# Altium footprint library 无刷驱动-STC-无感-Lite3S.PcbLib: 13 footprints
Each footprint in its own frame and in the unit in brackets; x right, y up, seen from the top. Pads: shape width x height; smd on the part's side, far side on the other; paste and mask are expansions set on the pad; w line width, h text height; cw(c..) or ccw(c..) is an arc to the next point about the centre after c.
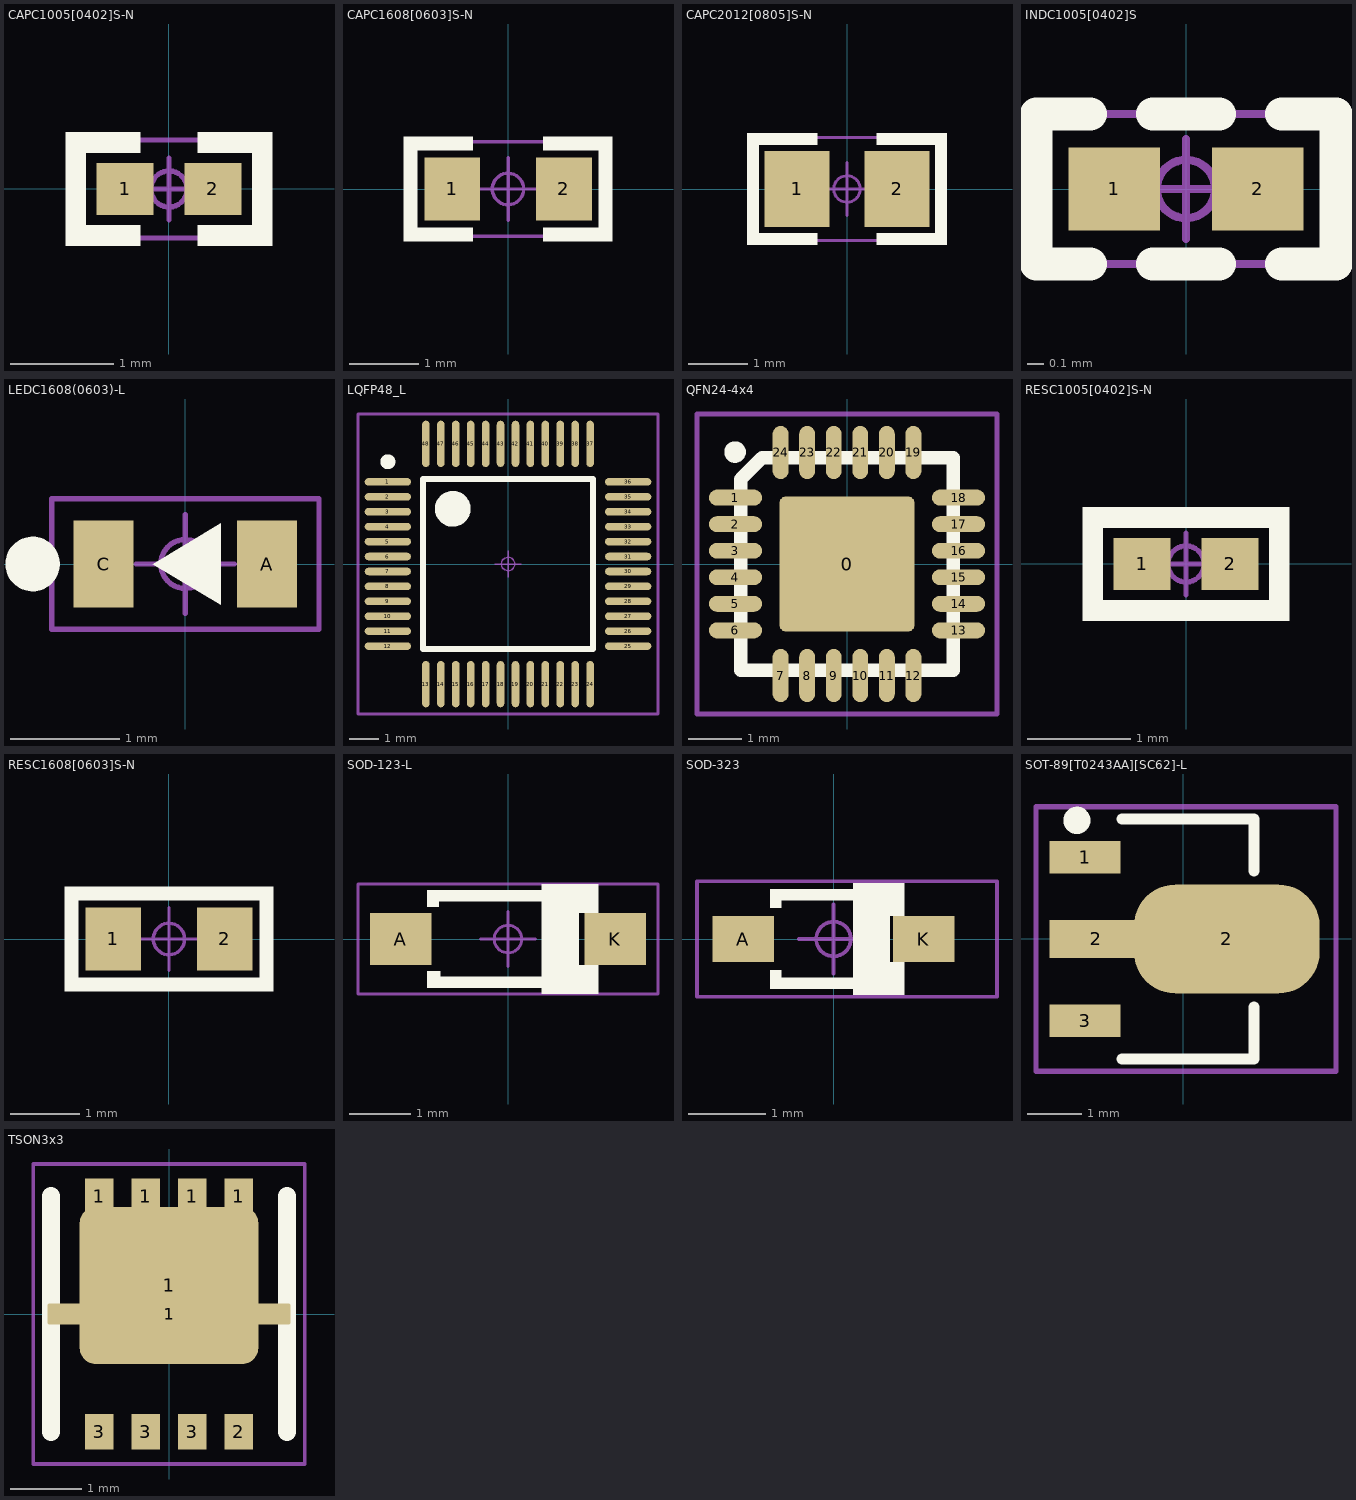
[diagram p0: the footprints below, top view; thin cyan lines are the x and y axes]

## CAPC1005[0402]S-N [mm] "0402贴片电容 有丝印 2脚 1.00x0.50mm IPC中密度"
height 0.6
pads (2):
  rect 0.55x0.5 smd: 1(-0.425,0) 2(0.425,0)
Top Overlay:
  region: 1,0.55 0.275,0.55 0.275,0.35 1,0.35
  region: 1,-0.552 1,0.548 0.8,0.548 0.8,-0.552
  region: 1,-0.35 0.275,-0.35 0.275,-0.55 1,-0.55
  rectangle: -1,-0.55 -0.275,-0.35
  region: -1,0.548 -1,-0.552 -0.8,-0.552 -0.8,0.548
  rectangle: -1,0.35 -0.275,0.55
Top Designator:
  text ".Designator" at -2.25,-0.226 h1
Top Component Outline:
  region: -0.95,-0.45 -0.95,-0.5 0.95,-0.5 0.95,-0.45
  region: 0.95,0.5 0.9,0.5 0.9,-0.5 0.95,-0.5
  region: 0.95,0.45 0.95,0.5 -0.95,0.5 -0.95,0.45
  rectangle: -0.95,-0.5 -0.9,0.5
Top Component Center:
  circle w0.05: c0,0 r0.175
  lines w0.05: -0.3,0 0.3,0 ; 0,-0.3 0,0.3
3D body "Capacitor 0402.SLDPRT": height 0.5, standoff 0, extent -0.5,-0.25 0.5,0.25

## CAPC1608[0603]S-N [mm] "0603贴片电容 有丝印 2脚 1.60x0.80mm IPC中密度"
height 0.85
pads (2):
  rect 0.8x0.9 smd: 1(-0.8,0) 2(0.8,0)
Top Overlay:
  rectangle: -1.5,-0.75 -0.5,-0.55
  region: -1.5,0.749 -1.5,-0.751 -1.3,-0.751 -1.3,0.749
  rectangle: -1.5,0.55 -0.5,0.75
  region: 1.5,0.75 0.5,0.75 0.5,0.55 1.5,0.55
  region: 1.5,-0.751 1.5,0.749 1.3,0.749 1.3,-0.751
  region: 1.5,-0.55 0.5,-0.55 0.5,-0.75 1.5,-0.75
Top Designator:
  text ".Designator" at -2.25,-0.226 h1
Top Component Outline:
  rectangle: -1.45,-0.7 -1.4,0.7
  region: 1.45,0.65 1.45,0.7 -1.45,0.7 -1.45,0.65
  region: 1.45,0.7 1.4,0.7 1.4,-0.7 1.45,-0.7
  region: -1.45,-0.65 -1.45,-0.7 1.45,-0.7 1.45,-0.65
Top Component Center:
  circle w0.05: c0,0 r0.225
  lines w0.05: -0.45,0 0.45,0 ; 0,-0.45 0,0.45
3D body: height 0.79, standoff 0, extent -0.8,-0.406 -0.45,0.406
3D body: height 0.79, standoff 0, extent 0.45,-0.406 0.8,0.407
3D body: height 0.79, standoff 0, extent -0.45,-0.406 0.45,0.406

## CAPC2012[0805]S-N [mm] "0805贴片电容 有丝印 2脚 2.00x1.20mm IPC中密度"
height 1.1
pads (2):
  rect 1.1x1.3 smd: 1(-0.85,0) 2(0.85,0)
Top Overlay:
  rectangle: -1.7,0.75 -0.5,0.95
  region: -1.7,0.95 -1.7,-0.95 -1.5,-0.95 -1.5,0.95
  rectangle: -1.7,-0.95 -0.5,-0.75
  region: 1.7,-0.75 0.5,-0.75 0.5,-0.95 1.7,-0.95
  region: 1.7,-0.95 1.7,0.95 1.5,0.95 1.5,-0.95
  region: 1.7,0.95 0.5,0.95 0.5,0.75 1.7,0.75
Top Designator:
  text ".Designator" at -2.25,-0.226 h1
Top Component Outline:
  region: -1.65,-0.85 -1.65,-0.9 1.65,-0.9 1.65,-0.85
  region: 1.65,0.875 1.6,0.875 1.6,-0.9 1.65,-0.9
  region: 1.65,0.85 1.65,0.9 -1.65,0.9 -1.65,0.85
  rectangle: -1.65,-0.9 -1.6,0.9
Top Component Center:
  circle w0.05: c0,0 r0.225
  lines w0.05: -0.45,0 0.45,0 ; 0,-0.45 0,0.45
3D body "capacitor_rnd1500805b106k6r3.stp": height 1.25, standoff 0, extent -1,-0.625 1,0.625

## INDC1005[0402]S [mm] "Chip Inductor, 2-Leads, Body 1.00x0.50mm, IPC Medium Density"
height 0.6
pads (2):
  rect 0.55x0.5 smd: 1(-0.43,0) 2(0.43,0)
Top Overlay:
  lines w0.2: -0.575,-0.45 -0.9,-0.45 -0.9,0.45 -0.575,0.45 ; -0.2,-0.45 0.2,-0.45 ; -0.2,0.45 0.2,0.45 ; 0.575,-0.45 0.9,-0.45 0.9,0.45 0.575,0.45
Top Designator:
  text ".Designator" at -2.25,-0.226 h1
Top Component Outline:
  lines w0.05: -0.9,-0.45 -0.9,0.45 0.9,0.45 0.9,-0.45 -0.9,-0.45
Top Component Center:
  circle w0.05: c0,0 r0.175
  lines w0.05: -0.3,0 0.3,0 ; 0,-0.3 0,0.3
3D body: height 0.49, standoff 0, extent -0.3,-0.25 0.3,0.25
3D body: height 0.5, standoff 0, extent 0.231,-0.25 0.5,0.25
3D body: height 0.5, standoff 0, extent -0.5,-0.25 -0.231,0.25

## LEDC1608(0603)-L [mm] "LED,Chip;1.60mm L X 0.80mm W X 0.80mm H"
height 0.8
pads (2):
  rect 0.55x0.8 smd: A(0.75,0) C(-0.75,0)
Top Overlay:
  circle w0.25: c-1.4,0 r0.125
  region: -0.3,0 0.325,0.375 0.325,-0.375
Top Designator:
  text ".Designator" at -2.45,-0.226 h1
Top Component Outline:
  lines w0.05: -1.225,-0.6 1.225,-0.6 1.225,0.6 -1.225,0.6 -1.225,-0.6
Top Component Center:
  circle w0.05: c0,0 r0.225
  lines w0.05: -0.45,0 0.45,0 ; 0,-0.45 0,0.45
3D body "0603 (1608) LED Base (Separate Lens).STEP": height 0.64, standoff 0, extent -0.8,-0.4 0.8,0.4
3D body: height 0.64, standoff 0, extent -0.559,-0.4 0.559,0.4

## LQFP48_L [mm] "Thin QFP, 48-Leads, Body 7x7mm, Pitch 0.5mm, IPC High Density"
height 1.6
pads (48):
  oval 1.55x0.254 smd: 1(-4.025,2.75) 2(-4.025,2.25) 3(-4.025,1.75) 4(-4.025,1.25) 5(-4.025,0.75) 6(-4.025,0.25) 7(-4.025,-0.25) 8(-4.025,-0.75) 9(-4.025,-1.25) 10(-4.025,-1.75) 11(-4.025,-2.25) 12(-4.025,-2.75) 25(4.025,-2.75) 26(4.025,-2.25) 27(4.025,-1.75) 28(4.025,-1.25) 29(4.025,-0.75) 30(4.025,-0.25) 31(4.025,0.25) 32(4.025,0.75) 33(4.025,1.25) 34(4.025,1.75) 35(4.025,2.25) 36(4.025,2.75)
  oval 0.254x1.55 smd: 13(-2.75,-4.025) 14(-2.25,-4.025) 15(-1.75,-4.025) 16(-1.25,-4.025) 17(-0.75,-4.025) 18(-0.25,-4.025) 19(0.25,-4.025) 20(0.75,-4.025) 21(1.25,-4.025) 22(1.75,-4.025) 23(2.25,-4.025) 24(2.75,-4.025) 37(2.75,4.025) 38(2.25,4.025) 39(1.75,4.025) 40(1.25,4.025) 41(0.75,4.025) 42(0.25,4.025) 43(-0.25,4.025) 44(-0.75,4.025) 45(-1.25,4.025) 46(-1.75,4.025) 47(-2.25,4.025) 48(-2.75,4.025)
Top Overlay:
  circle w0.25: c-4.025,3.425 r0.125
  circle w0.6: c-1.85,1.85 r0.3
  lines w0.2: -2.85,-2.85 -2.85,2.85 2.85,2.85 2.85,-2.85 -2.85,-2.85
Top Designator:
  text ".Designator" at -2.25,-0.226 h1
Top Component Outline:
  lines w0.1: -5.025,-5.025 -5.025,5.025 5.025,5.025 5.025,-5.025 -5.025,-5.025
Top Component Center:
  circle w0.05: c0,0 r0.225
  lines w0.05: -0.45,0 0.45,0 ; 0,-0.45 0,0.45
3D body "User Library-LQFP48_Grid_0_5.STEP": height 1.6, standoff 0, extent -4.5,-4.5 4.5,4.5

## QFN24-4x4 [mm]
height 1.6
pads (25):
  rrect10% 2.55x2.55 smd: 0(0,0)
  oval 1x0.3 smd: 1(-2.1,1.25) 2(-2.1,0.75) 3(-2.1,0.25) 4(-2.1,-0.25) 5(-2.1,-0.75) 6(-2.1,-1.25) 13(2.1,-1.25) 14(2.1,-0.75) 15(2.1,-0.25) 16(2.1,0.25) 17(2.1,0.75) 18(2.1,1.25)
  oval 0.3x1 smd: 7(-1.25,-2.1) 8(-0.75,-2.1) 9(-0.25,-2.1) 10(0.25,-2.1) 11(0.75,-2.1) 12(1.25,-2.1) 19(1.25,2.1) 20(0.75,2.1) 21(0.25,2.1) 22(-0.25,2.1) 23(-0.75,2.1) 24(-1.25,2.1)
Top Overlay:
  circle w0.203: c-2.108,2.108 r0.102
  lines w0.254: -2,-2 2,-2 2,2 -1.6,2 -2,1.6 -2,-2
Top Designator:
  text ".Designator" at -2.25,-0.226 h1
Top Component Outline:
  lines w0.1: -2.825,-2.825 2.825,-2.825 2.825,2.825 -2.825,2.825 -2.825,-2.825
Top Component Center:
  circle w0.05: c0,0 r0.225
  lines w0.05: -0.45,0 0.45,0 ; 0,-0.45 0,0.45
3D body "User Library-QFN 24 4x4.step": height 0.9, standoff 0, extent -2.002,-2.002 2.002,2.002

## RESC1005[0402]S-N [mm] "0402贴片电阻 有丝印 2脚 1.00x0.50mm IPC中密度"
height 0.6
pads (2):
  rect 0.55x0.5 smd: 1(-0.425,0) 2(0.425,0)
Top Overlay:
  region: 1,-0.55 1,0.55 0.8,0.55 0.8,-0.55
  rectangle: -1,-0.55 1,-0.35
  region: -1,0.55 -1,-0.55 -0.8,-0.55 -0.8,0.55
  rectangle: -1,0.35 1,0.55
Top Designator:
  text ".Designator" at -2.25,-0.226 h1
Top Component Outline:
  rectangle: -0.95,-0.5 -0.9,0.5
  region: 0.95,0.45 0.95,0.5 -0.95,0.5 -0.95,0.45
  region: 0.95,0.5 0.9,0.5 0.9,-0.5 0.95,-0.5
  region: -0.95,-0.45 -0.95,-0.5 0.95,-0.5 0.95,-0.45
Top Component Center:
  circle w0.05: c0,0 r0.175
  lines w0.05: -0.3,0 0.3,0 ; 0,-0.3 0,0.3
3D body "R0402.STEP": height 0.35, standoff 0, extent -0.5,-0.25 0.5,0.25

## RESC1608[0603]S-N [mm] "0603贴片电阻 有丝印 2脚 1.60x0.80mm IPC中密度"
height 0.6
pads (2):
  rect 0.8x0.9 smd: 1(-0.8,0) 2(0.8,0)
Top Overlay:
  region: 1.5,-0.75 1.5,0.75 1.3,0.75 1.3,-0.75
  region: -1.5,0.75 -1.5,-0.75 -1.3,-0.75 -1.3,0.75
  rectangle: -1.5,0.55 1.5,0.75
  rectangle: -1.501,-0.75 1.499,-0.55
Top Designator:
  text ".Designator" at -2.25,-0.226 h1
Top Component Outline:
  rectangle: -1.45,-0.7 -1.4,0.7
  region: 1.45,0.65 1.45,0.7 -1.45,0.7 -1.45,0.65
  region: 1.45,0.7 1.4,0.7 1.4,-0.7 1.45,-0.7
  region: -1.45,-0.65 -1.45,-0.7 1.45,-0.7 1.45,-0.65
Top Component Center:
  circle w0.05: c0,0 r0.225
  lines w0.05: -0.45,0 0.45,0 ; 0,-0.45 0,0.45
3D body "R0603.STEP": height 0.45, standoff 0, extent -0.8,-0.4 0.8,0.4

## SOD-123-L [mm] "SOD Diode;2.70mm W X 1.60mm L X 1.35mm H body"
height 1.35
pads (2):
  rect 1x0.85 smd: A(-1.75,0) K(1.75,0)
Top Overlay:
  rectangle: 0.549,-0.801 1.158,0.799
  rectangle: 0.549,-0.899 1.474,-0.696
  rectangle: -1.143,0.612 0.584,0.8
  rectangle: 0.549,0.698 1.474,0.901
  rectangle: -1.143,-0.8 0.584,-0.612
  rectangle: 1.15,0.425 1.475,0.8
  rectangle: 1.15,-0.8 1.475,-0.425
  region: -1.1,-0.525 -1.325,-0.525 -1.325,-0.8 -1.1,-0.8
  region: -1.125,0.8 -1.325,0.8 -1.325,0.525 -1.125,0.525
Top Designator:
  text ".Designator" at -2.25,-0.226 h1
Top Component Outline:
  lines w0.05: -2.45,-0.9 -2.45,0.9 2.45,0.9 2.45,-0.9 -2.45,-0.9
Top Component Center:
  circle w0.05: c0,0 r0.225
  lines w0.05: -0.45,0 0.45,0 ; 0,-0.45 0,0.45
3D body "SOD-123.STEP": height 1.2, standoff 0, extent -1.85,-0.8 1.85,0.8

## SOD-323 [mm] "SOD Diode;1.65mm W X 1.24mm L X 1.16mm H body"
height 1.16
pads (2):
  rect 0.8x0.6 smd: A(-1.175,0) K(1.175,0)
Top Overlay:
  rectangle: -0.825,-0.65 -0.675,-0.4
  rectangle: -0.825,-0.65 0.65,-0.5
  rectangle: -0.825,0.4 -0.675,0.65
  rectangle: -0.825,0.5 0.65,0.65
  rectangle: 0.254,-0.725 0.737,0.725
  rectangle: 0.575,0.3 0.925,0.725
  rectangle: 0.575,-0.725 0.925,-0.3
Top Designator:
  text ".Designator" at -2.075,-0.226 h1
Top Component Outline:
  lines w0.05: -1.775,-0.75 2.125,-0.75 2.125,0.75 -1.775,0.75 -1.775,-0.75
Top Component Center:
  circle w0.05: c0,0 r0.225
  lines w0.05: -0.45,0 0.45,0 ; 0,-0.45 0,0.45
3D body "SOD-323.STEP": height 1, standoff 0, extent -1.3,-0.65 1.3,0.65

## SOT-89[T0243AA][SC62]-L [mm] "SOT89, T0243AA,SC62,3-Leads, Body 4.5x2.4 mm, Pitch 1.5mm, Lead Span 4.1mm, IPC Low Density"
height 1.6
pads (4):
  rect 1.3x0.6 smd: 1(-1.8,1.5) 3(-1.8,-1.5)
  rect 1.7x0.7 smd: 2(-1.6,0)
  rrect75% 3.4x2 smd: 2(0.8,0)
Top Overlay:
  circle w0.25: c-1.95,2.175 r0.125
  lines w0.2: -1.125,-2.2 1.3,-2.2 1.3,-1.25 ; -1.125,2.2 1.3,2.2 1.3,1.25
Top Designator:
  text ".Designator" at -2.25,-0.226 h1
Top Component Outline:
  lines w0.1: -2.7,-2.425 2.8,-2.425 2.8,2.425 -2.7,2.425 -2.7,-2.425
Top Component Center:
  circle w0.025: c0,0 r0.225
  lines w0.025: -0.45,0 0.45,0 ; 0,-0.45 0,0.45
3D body "SOT89.STEP": height 1.6, standoff 0, extent -2.242,-2.3 1.758,2.3

## TSON3x3 [mm]
pads (10):
  rect 0.4x0.5 smd: 1(-0.975,1.65) 1(-0.325,1.65) 1(0.325,1.65) 1(0.975,1.65) 2(0.975,-1.65) 3(-0.975,-1.65) 3(-0.325,-1.65) 3(0.325,-1.65)
  rrect20% 3.4x0.3 smd: 1(0,0)
  rrect20% 2.5x2.2 smd: 1(0,0.4)
Top Overlay:
  lines w0.254: -1.65,-1.65 -1.65,1.65 ; 1.65,-1.65 1.65,1.65
Top Designator:
  text ".Designator" at -2.25,-0.226 h1
Top Component Outline:
  lines w0.05: -1.9,-2.1 1.9,-2.1 1.9,2.1 -1.9,2.1 -1.9,-2.1
Top Component Center:
  circle w0.025: c0,0 r0.225
  lines w0.025: -0.45,0 0.45,0 ; 0,-0.45 0,0.45
3D body: height 0.85, standoff 0, extent -1.55,-1.55 1.55,1.55
3D body: height 0.17, standoff 0, extent -1.662,-0.125 1.663,0.125
3D body: height 0.17, standoff 0, extent -1.25,-0.7 1.25,1.55
3D body: height 0.17, standoff 0, extent 0.825,1.55 1.125,1.65
3D body: height 0.17, standoff 0, extent 0.175,1.55 0.475,1.65
3D body: height 0.17, standoff 0, extent 0.825,-1.65 1.125,-1.55
3D body: height 0.17, standoff 0, extent 0.175,-1.65 0.475,-1.55
3D body: height 0.17, standoff 0, extent -0.475,1.55 -0.175,1.65
3D body: height 0.17, standoff 0, extent -1.125,1.55 -0.825,1.65
3D body: height 0.17, standoff 0, extent -0.475,-1.65 -0.175,-1.55
3D body: height 0.17, standoff 0, extent -1.125,-1.65 -0.825,-1.55